# Altium footprint library SW 8POS PIANO.PcbLib: 1 footprints
Each footprint in its own frame and in the unit in brackets; x right, y up, seen from the top. Pads: shape width x height; smd on the part's side, far side on the other; paste and mask are expansions set on the pad; w line width, h text height; cw(c..) or ccw(c..) is an arc to the next point about the centre after c.
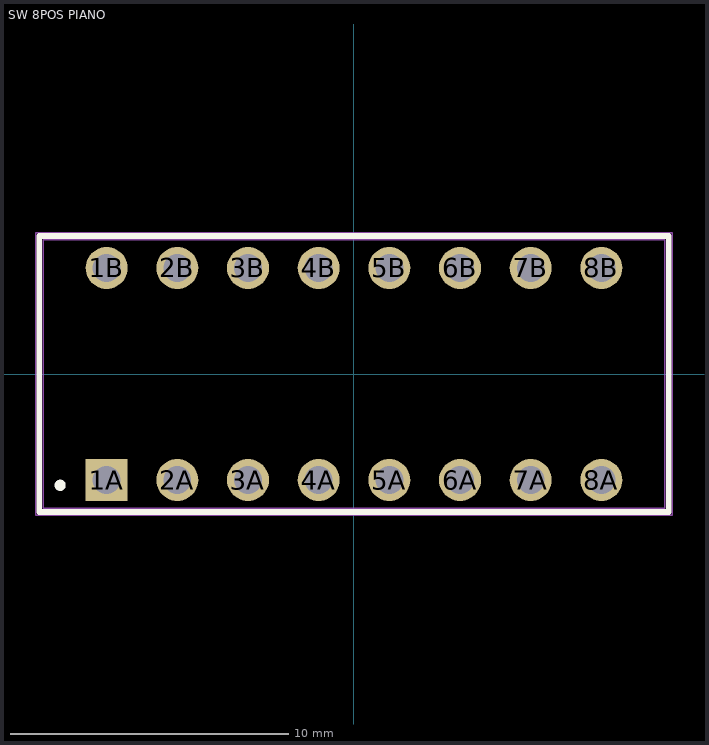
[diagram p0: the footprint, top view; thin cyan lines are the x and y axes]

## SW 8POS PIANO [mm]
pads (16):
  rect 1.508x1.508 hole 1: 1A(-8.89,-3.81)
  round 1.508 hole 1: 1B(-8.89,3.81) 2A(-6.35,-3.81) 2B(-6.35,3.81) 3A(-3.81,-3.81) 3B(-3.81,3.81) 4A(-1.27,-3.81) 4B(-1.27,3.81) 5A(1.27,-3.81) 5B(1.27,3.81) 6A(3.81,-3.81) 6B(3.81,3.81) 7A(6.35,-3.81) 7B(6.35,3.81) 8A(8.89,-3.81) 8B(8.89,3.81)
Top Overlay:
  circle w0.2: c-10.56,-4 r0.1
  lines w0.2: -11.31,-4.96 11.31,-4.96 11.31,4.96 -11.31,4.96 -11.31,-4.96
Mechanical 13:
  lines w0.05: -11.176,-4.826 11.176,-4.826 11.176,4.826 -11.176,4.826 -11.176,-4.826
Mechanical 15:
  lines w0.05: -11.435,-5.085 11.435,-5.085 11.435,5.085 -11.435,5.085 -11.435,-5.085
3D body "76psb08t.STEP": height 7.77, standoff -3.3, extent -11.176,-4.826 11.176,4.826